# Altium integrated library Smart_Plugs.IntLib: 24 symbols
Pins are listed as number, name and electrical type; pins without a type are passive.

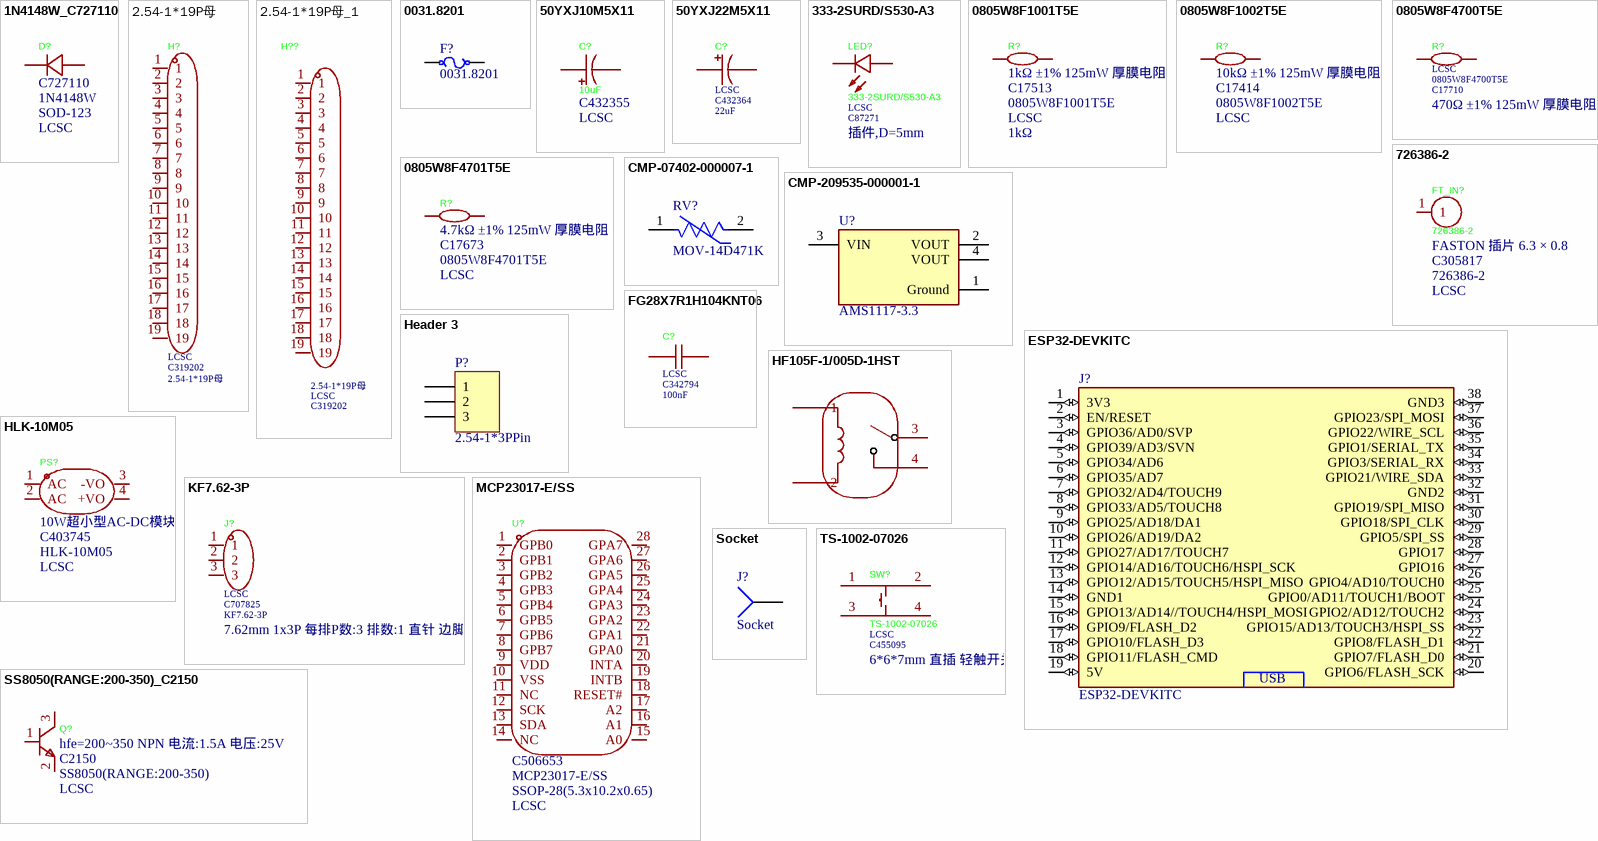
[diagram p0: symbols 1N4148W_C727110 to TS-1002-07026]

## 1N4148W_C727110
designator D?, comment Supplier Part: C727110  Supplier Footprint: SOD-123  Supplier: LCSC  (hidden comment: 1N4148W)
Manufacturer: TWGMC(台湾迪嘉); Symbol: 1N4148W_C727110; Current - Rectified: 300mA; Pd - Power Dissipation: 400mW; Reverse Leakage Current (Ir): 1uA; Non-Repetitive Peak Forward Surge Current: 4A; Add into BOM: yes; Diode Configuration: Independent; Voltage - DC Reverse(Vr): 100V; Reverse Recovery Time (trr): 8ns; Operating Junction Temperature Range: -55℃~+150℃@(Tj); Device: 1N4148W_C727110; LCSC Part Name: 1N4148W; JLCPCB Part Class: Extended Part; Datasheet: https://item.szlcsc.com/datasheet/1N4148W/774215.html; Convert to PCB: yes; Voltage - Forward(Vf@If): -; Manufacturer Part: 1N4148W
footprint SOD-123_L3.1-W1.7-LS3.7-RD
3D model SOD-123_L2.7-W1.6-H1.4-LS3.7
pins: 1 K, 2 A

## 2.54-1*19P母
designator H?  Supplier: LCSC  Supplier Part: C319202  (hidden comment: 2.54-1*19P母)
Manufacturer: BOOMELE(博穆精密); Add into BOM: yes; Pitch: 2.54mm; Circular Hole / Square Hole: Square Hole; Number of Positions: 19P; Holes Direction: Top; Symbol: 2.54-1*19P母; Device: 2.54-1*19P母; LCSC Part Name: 间距:2.54mm 直插; Supplier Footprint: 插件,P=2.54mm; JLCPCB Part Class: Extended Part; Convert to PCB: yes; Row Spacing: -; Mounting Type: Through Hole; Number of Rows: 1; Insulation Height: -; Contact Material: -; Contact Plating: -; Manufacturer Part: 2.54-1*19P母
footprint HDR-TH_19P-P2.54-V-F
3D model HDR-TH_19P-P2.54-F-LI-1X19P
pins: 1, 2, 3, 4, 5, 6, 7, 8, 9, 10, 11, 12, 13, 14, 15, 16, 17, 18, 19

## 2.54-1*19P母_1
designator H??, comment Supplier: LCSC  Supplier Part: C319202  (hidden comment: 2.54-1*19P母)
Manufacturer: BOOMELE(博穆精密); Add into BOM: yes; Pitch: 2.54mm; Circular Hole / Square Hole: Square Hole; Number of Positions: 19P; Holes Direction: Top; Symbol: 2.54-1*19P母; Device: 2.54-1*19P母; Manufacturer Part: 2.54-1*19P母; LCSC Part Name: 间距:2.54mm 直插; Supplier Footprint: 插件,P=2.54mm; JLCPCB Part Class: Extended Part; Convert to PCB: yes; Row Spacing: -; Mounting Type: Through Hole; Number of Rows: 1; Insulation Height: -; Contact Material: -; Contact Plating: -
footprint HDR-TH_19P-P2.54-V-F
3D model HDR-TH_19P-P2.54-F-LI-1X19P
pins: 1, 2, 3, 4, 5, 6, 7, 8, 9, 10, 11, 12, 13, 14, 15, 16, 17, 18, 19

## 0031.8201
designator F?
Fuse Block 10A 500V 1 Circuit Cartridge Through Hole; MF: Schurter Inc.; SnapEDA_Link: https://www.snapeda.com/parts/0031.8201/Schurter%20Inc./view-part/235177/?ref=snap; Availability: Unavailable; MP: 0031.8201; Value: *; Price: None; Package: None
footprint SCHURTER_0031.8201
pins: 1, 2

## 50YXJ10M5X11
designator C?, comment 10uF  Supplier Part: C432355  Supplier: LCSC
Manufacturer: Rubycon(红宝石); Symbol: 50YXJ10M5X11; Add into BOM: yes; Tolerance: ±20%; Voltage Rating: 50V; Pin Spacing: 2mm; Lifetime: 5000hrs@105℃; Device: 50YXJ10M5X11; Value: 10uF; LCSC Part Name: 10uF ±20% 50V; Manufacturer Part: 50YXJ10M5X11; Supplier Footprint: 插件,D5xL11mm; JLCPCB Part Class: Extended Part; Datasheet: https://item.szlcsc.com/datasheet/50YXJ10M5X11/429163.html; Convert to PCB: yes; Diameter: 5mm; Height - Seated (Max): 11mm
footprint CAP-TH_BD5.0-P2.00-D0.8-FD
3D model CAP-TH_D5.0×H7.0×P2.0
pins: 1, 2

## 50YXJ22M5X11
designator C?, comment Supplier: LCSC  Supplier Part: C432364  (hidden comment: 22uF)
Manufacturer: rubycon(红宝石); Symbol: 50YXJ22M5X11; Add into BOM: yes; Tolerance: ±20%; Device: 50YXJ22M5X11; Manufacturer Part: 50YXJ22M5X11; LCSC Part Name: 22uF ±20% 50V; Supplier Footprint: 插件,D5xL11mm; JLCPCB Part Class: Extended Part; Datasheet: https://atta.szlcsc.com/upload/public/pdf/source/20190927/C432444_D90212164DBC1B856ABE912664018FD4.pdf; Convert to PCB: yes; Ripple Current: -; Equivalent Series Resistance(ESR): -; Lead Spacing: 2mm; Lifetime @ Temp: -; Value: 22uF
footprint CAP-TH_BD5.0-P2.00-D0.5-FD-1
3D model CAP-TH_BD5.0-P2.00-D0.5-FD-1
pins: 1, 2

## 333-2SURD/S530-A3
designator LED?  Supplier: LCSC  Supplier Part: C87271  Supplier Footprint: 插件,D=5mm
Manufacturer: EVERLIGHT(亿光); Lamp Holder Type: 5 mm round LED; Add into BOM: yes; Illumination Color: Red; Voltage - Forward(Vf): 2V; Forward Current: 20mA; Wavelength - Dominant: 624nm; Peak Wavelength: 632nm; Lens Color: Red Lens; Luminous Intensity: 200mcd; Viewing Angle: 30°; Symbol: 333-2SURD/S530-A3; Device: 333-2SURD/S530-A3; Manufacturer Part: 333-2SURD/S530-A3; LCSC Part Name: 5mm圆形灯头 红色; JLCPCB Part Class: Extended Part; Datasheet: https://en.everlight.com/wp-content/plugins/ItemRelationship/product_files/pdf/333-2SURD-S530-A3.pdf; Convert to PCB: yes
footprint LED-TH_BD5.9-P2.54-RD_RED
3D model LED-TH_BD5.9-P2.54-RD_RED
pins: 1 C, 2 A

## 0805W8F1001T5E
designator R?, comment LCSC Part Name: 1kΩ ±1% 125mW 厚膜电阻  Supplier Part: C17513  Manufacturer Part: 0805W8F1001T5E  Supplier: LCSC  (hidden comment: 1kΩ)
Manufacturer: UNI-ROYAL(厚声); Add into BOM: yes; Tolerance: ±1%; Temperature Coefficient: ±100ppm/℃; Symbol: 0805W8F1001T5E; Device: 0805W8F1001T5E; Supplier Footprint: 0805; JLCPCB Part Class: Basic Part; Datasheet: https://atta.szlcsc.com/upload/public/pdf/source/20200306/C422600_1E6D84923E4A46A82E41ADD87F860B5C.pdf; Convert to PCB: yes; Type: Thick Film Resistors; Operating Temperature Range: -55℃~+155℃; Value: 1kΩ
footprint R0805
3D model R0805_L2.0-W1.3-H0.6
pins: 1, 2

## 0805W8F1002T5E
designator R?, comment LCSC Part Name: 10kΩ ±1% 125mW 厚膜电阻  Supplier Part: C17414  Manufacturer Part: 0805W8F1002T5E  Supplier: LCSC  (hidden comment: 10kΩ)
Manufacturer: UNI-ROYAL(厚声); Add into BOM: yes; Tolerance: ±1%; Power(Watts): 125mW; Voltage-Supply(Max): 150V; Temperature Coefficient: ±100ppm/℃; Symbol: 0805W8F1002T5E; Device: 0805W8F1002T5E; Value: 10kΩ; Supplier Footprint: 0805; JLCPCB Part Class: Basic Part; Datasheet: https://item.szlcsc.com/datasheet/0805W8F1002T5E/18102.html; Convert to PCB: yes; Type: Thick Film Resistor; Operating Temperature: -55℃~+155℃
footprint R0805
3D model R0805_L2.0-W1.3-H0.6
pins: 1, 2

## 0805W8F4700T5E
designator R?, comment Supplier: LCSC  Manufacturer Part: 0805W8F4700T5E  Supplier Part: C17710  LCSC Part Name: 470Ω ±1% 125mW 厚膜电阻  (hidden comment: 470Ω)
Manufacturer: UNI-ROYAL(厚声); Add into BOM: yes; Tolerance: ±1%; Power(Watts): 125mW; Voltage-Supply(Max): 150V; Temperature Coefficient: ±100ppm/℃; Symbol: 0805W8F4700T5E; Device: 0805W8F4700T5E; Supplier Footprint: 0805; JLCPCB Part Class: Basic Part; Datasheet: https://item.szlcsc.com/datasheet/0805W8F4700T5E/18398.html; Convert to PCB: yes; Type: Thick Film Resistor; Value: 470Ω; Operating Temperature: -55℃~+155℃
footprint R0805
3D model R0805_L2.0-W1.3-H0.6
pins: 1, 2

## 0805W8F4701T5E
designator R?, comment LCSC Part Name: 4.7kΩ ±1% 125mW 厚膜电阻  Supplier Part: C17673  Manufacturer Part: 0805W8F4701T5E  Supplier: LCSC  (hidden comment: 4.7kΩ)
Manufacturer: UNI-ROYAL(厚声); Add into BOM: yes; Tolerance: ±1%; Temperature Coefficient: ±100ppm/℃; Symbol: 0805W8F4701T5E; Device: 0805W8F4701T5E; Supplier Footprint: 0805; JLCPCB Part Class: Basic Part; Datasheet: https://atta.szlcsc.com/upload/public/pdf/source/20200306/C422600_1E6D84923E4A46A82E41ADD87F860B5C.pdf; Convert to PCB: yes; Type: Thick Film Resistors; Value: 4.7kΩ; Operating Temperature Range: -55℃~+155℃
footprint R0805
3D model R0805_L2.0-W1.3-H0.6
pins: 1, 2

## 726386-2
designator FT_IN?  LCSC Part Name: FASTON 插片 6.3 × 0.8  Supplier Part: C305817  Supplier: LCSC
Manufacturer: TE Connectivity(泰科电子); Add into BOM: yes; Symbol: 726386-2; Device: 726386-2; Supplier Footprint: 插件; JLCPCB Part Class: Extended Part; Datasheet: https://item.szlcsc.com/datasheet/726386-2/289903.html; Convert to PCB: yes; Manufacturer Part: 726386-2
footprint CONN-TH_726386-2
3D model CONN-TH_726386-2
pins: 1

## CMP-07402-000007-1
designator RV?, comment MOV-14D471K
VARISTOR 470V 4.5KA DISC 14MM; Manufacturer: Bourns Inc.; Manufacturer: Bourns; Value: 516pF; Clamping Voltage: 775V; Esd Protec Present: true; Voltage Rating Ac: 300V; Clamping Current: 50A; Voltage Tolerance: 10%; Varistor Voltage: 423V; Voltage Rating Dc: 385V; Temperature Range High: +105°C; Device Class L3: unset; Category: Res; Package: Radial; Height: 20mm; Device Class L1: Circuit Protection; Temperature Range Low: -40°C; Lead Free: Yes; Automotive: No; Mouser Description: Varistors 470volts 14mm; RoHS: TRUE; Octopart: https://octopart.com/mov-14d471k-bourns-21388916; Device Class L2: Varistors; Manufacturer Part Number: MOV-14D471K; Digikey Description: VARISTOR 470V 4.5KA DISC 14MM; Temperature: -40°C to +105°C; Capacitance: 516pF; ComponentLink2Description: Datasheet; ComponentLink2URL: https://www.bourns.com/docs/product-datasheets/mov14d.pdf?sfvrsn=d6ed188_26
footprint FP-MOV-14D471K-MFG
pins: 1, 2

## CMP-209535-000001-1
designator U?, comment AMS1117-3.3
LDO Voltage Regulators 1A, 3.3V; Manufacturer: Advanced Monolithic Systems; Dropout Voltage: 1.1V; Output Type: Fixed; Nominal Supply Current: 5mA; Max Power Dissipation: 1.2W; Max Supply Voltage: 15V; Number Of Outputs: 1; Standoff Height: 0.64mm; Max Junction Temp: +125°C; Height: 1.8mm; Package: AMS1117; Device Class L2: Power Management ICs; ComponentLink2Description: Datasheet; ComponentLink2URL: http://www.advanced-monolithic.com/pdf/ds1117.pdf; Category: IC; RoHS: TRUE; Automotive: No; Device Class L1: Integrated Circuits (ICs); Output Current: 1A; Device Class L3: Voltage Regulators - Linear; Temperature: -40°C to +125°C; Output Voltage: 3.3V; Manufacturer Part Number: AMS1117-3.3; Temperature Range Low: -40°C; Octopart: https://octopart.com/ams1117-3.3-advanced+monolithic+systems-25899300; Lead Free: Yes; Ipc Land Pattern Name: SOT229P700X180-4; Temperature Range High: +125°C
footprint FP-AMS1117-IPC_C
footprint FP-AMS1117-IPC_B
footprint FP-AMS1117-IPC_A
pins: 1 Ground (power), 2 VOUT, 3 VIN (power), 4 VOUT

## ESP32-DEVKITC
designator J?
ESP32-WROOM-32UE series Transceiver; 802.11 b/g/n (Wi-Fi, WiFi, WLAN), Bluetooth Â® Smart Ready 4.x Dual Mode Evaluation Board; MF: Espressif Systems; SnapEDA_Link: https://www.snapeda.com/parts/ESP32-DEVKITC/Espressif+Systems/view-part/?ref=snap; Package: None; Value: *; MP: ESP32-DEVKITC; Check_prices: https://www.snapeda.com/parts/ESP32-DEVKITC/Espressif+Systems/view-part/?ref=eda
footprint ESP32-DEVKITC
pins: 1 3V3 (io), 2 EN/RESET (io), 3 GPIO36/AD0/SVP (io), 4 GPIO39/AD3/SVN (io), 5 GPIO34/AD6 (io), 6 GPIO35/AD7 (io), 7 GPIO32/AD4/TOUCH9 (io), 8 GPIO33/AD5/TOUCH8 (io), 9 GPIO25/AD18/DA1 (io), 10 GPIO26/AD19/DA2 (io), 11 GPIO27/AD17/TOUCH7 (io), 12 GPIO14/AD16/TOUCH6/HSPI_SCK (io), 13 GPIO12/AD15/TOUCH5/HSPI_MISO (io), 14 GND1 (io), 15 GPIO13/AD14//TOUCH4/HSPI_MOSI (io), 16 GPIO9/FLASH_D2 (io), 17 GPIO10/FLASH_D3 (io), 18 GPIO11/FLASH_CMD (io), 19 5V (io), 20 GPIO6/FLASH_SCK (io), 21 GPIO7/FLASH_D0 (io), 22 GPIO8/FLASH_D1 (io), 23 GPIO15/AD13/TOUCH3/HSPI_SS (io), 24 GPIO2/AD12/TOUCH2 (io), 25 GPIO0/AD11/TOUCH1/BOOT (io), 26 GPIO4/AD10/TOUCH0 (io), 27 GPIO16 (io), 28 GPIO17 (io), 29 GPIO5/SPI_SS (io), 30 GPIO18/SPI_CLK (io), 31 GPIO19/SPI_MISO (io), 32 GND2 (io), 33 GPIO21/WIRE_SDA (io), 34 GPIO3/SERIAL_RX (io), 35 GPIO1/SERIAL_TX (io), 36 GPIO22/WIRE_SCL (io), 37 GPIO23/SPI_MOSI (io), 38 GND3 (io)
text: USB

## FG28X7R1H104KNT06
designator C?, comment Supplier: LCSC  Supplier Part: C342794  (hidden comment: 100nF)
Manufacturer: TDK; Symbol: FG28X7R1H104KNT06; Add into BOM: yes; Tolerance: ±10%; Voltage Rating: 50V; Temperature Coefficient: X7R; Pin Spacing: 5mm; Device: FG28X7R1H104KNT06; LCSC Part Name: 100nF ±10% 50V; Manufacturer Part: FG28X7R1H104KNT06; Supplier Footprint: 插件,P=5mm; JLCPCB Part Class: Extended Part; Datasheet: https://item.szlcsc.com/datasheet/FG28X7R1H104KNT06/319644.html; Convert to PCB: yes; Value: 100nF
footprint CAP-TH_L4.0-W2.5-P5.00-D1.0
3D model CAP-TH_L4.0-W2.5-H5.5-P5.0
pins: 1, 2

## Header 3
designator P?, comment 2.54-1*3PPin
-40℃~+105℃ 1 1x3P 2.54mm 2.5mm 3A 3P 3mm 6mm Black Brass Gold Pin Header Through Hole Plugin,P=2.54mm Pin Headers ROHS; LatestRevisionDate: 17-Jul-2002; LatestRevisionNote: Re-released for DXP Platform.; Publisher: Altium Limited
footprint HDR1X3 (Connector; Header; 3 Position)
signal-integrity model Connector
pins: 1, 2, 3

## HF105F-1/005D-1HST
designator K?  (value not drawn)
Manufacturer: HF(宏发); Add into BOM: yes; Coil Voltage: 5V; Contact Form: 1 Set Normally Open: 1A (SPST NO); Contact Rating: 30A@240VAC；20A@28VDC; Switching Voltage(Max): 277V@AC；28V@DC; Coil Rated Power: 900mW; Switching Current(Max): 40A; Coil Type: Non-Polarized - Single Coil; Coil Resistance: 27Ω; Contact Resistance: 50mΩ; Operate Time: 15ms; Release Time: 10ms; Symbol: HF105F-1/005D-1HST; Device: HF105F-1/005D-1HST; LCSC Part Name: 小型大功率5V继电器 单刀单掷-常开; Supplier Part: C2976768; Manufacturer Part: HF105F-1/005D-1HST; Supplier Footprint: 插件,32.3x27.1mm; JLCPCB Part Class: Extended Part; Datasheet: https://item.szlcsc.com/datasheet/HF105F-1%252F005D-1HST/3384988.html; Supplier: LCSC; Convert to PCB: yes; Number of Pins: 4; Contact Material: AgSnO2; Operating Temperature: -55℃~+85℃
footprint HF105F-1_005D-1HST1_Update
pins: 1, 2, 3, 4

## HLK-10M05
designator PS?  LCSC Part Name: 10W超小型AC-DC模块电源  Supplier Part: C403745  Supplier: LCSC  (hidden comment: HLK-10M05)
Manufacturer: HI-LINK(海凌科); Add into BOM: yes; Symbol: HLK-10M05; Device: HLK-10M05; Supplier Footprint: DIP,46.9x27.8mm; JLCPCB Part Class: Extended Part; Datasheet: https://item.szlcsc.com/datasheet/HLK-10M05/389994.html; Convert to PCB: yes; Manufacturer Part: HLK-10M05
footprint PWRM-TH_HLK-10M05
3D model PWRM-TH_HLK-10M05
pins: 1 AC, 2 AC, 3 -VO, 4 +VO

## KF7.62-3P
designator J?  Supplier: LCSC  Supplier Part: C707825  LCSC Part Name: 7.62mm 1x3P 每排P数:3 排数:1 直针 边脚  (hidden comment: KF7.62-3P)
Manufacturer: KEFA(科发); Barrier Type: 2-Side; Pitch: 7.62mm; Add into BOM: yes; Number of Positions or Pins: 1x3P; Pin Location: Side Mount; Number of PINs Per Row: 3; Current Rating: 24A; Voltage Rating (Max): 450V; Wire Gauge - AWG: 12~22; Wire Gauge - mm2: 2.5; Symbol: KF7.62-3P; Device: KF7.62-3P; JLCPCB Part Class: Extended Part; Supplier Footprint: 插件,P=7.62mm; Datasheet: https://item.szlcsc.com/datasheet/KF7.62-3P/745034.html; Convert to PCB: yes; Mounting Type: Straight Pin; Number of Pins: 3P; Number of Rows: 1; Operating Temperature: -40℃~+105℃; Color: Black; Manufacturer Part: KF7.62-3P
footprint CONN-TH_KF7.62-3P
3D model CONN-TH_KF7.62-3P
pins: 1, 2, 3

## MCP23017-E/SS
designator U?  Supplier Part: C506653  Supplier Footprint: SSOP-28(5.3x10.2x0.65)  Supplier: LCSC  (hidden comment: MCP23017-E/SS)
Manufacturer: MICROCHIP(美国微芯); Add into BOM: yes; Interface: I2C; Number of I/O: 16; Voltage - Supply: 1.8V~5.5V; Current - Output Low(IOL): 8mA; Clock Frequency: 1.7MHz; Number of Supporting Devices: 8; Quiescent Current: 1uA; Output Logic Level - Low: 600mV; Symbol: MCP23017-E/SS; Device: MCP23017-E/SS; LCSC Part Name: 16位带串行接口的I/O扩展器; JLCPCB Part Class: Extended Part; Datasheet: https://item.szlcsc.com/datasheet/MCP23017-E%252FSS/519857.html; Convert to PCB: yes; Interrupt Output: Interrupt Output; Output Type: -; Current - Output High(IOH): -; Operating Temperature: -40℃~+125℃; Manufacturer Part: MCP23017-E/SS
footprint SSOP-28_L10.2-W5.3-P0.65-LS7.8-BL
3D model SSOP-28_L10.2-W5.3-H2.0-LS7.8-P0.65
pins: 1 GPB0, 2 GPB1, 3 GPB2, 4 GPB3, 5 GPB4, 6 GPB5, 7 GPB6, 8 GPB7, 9 VDD, 10 VSS, 11 NC, 12 SCK, 13 SDA, 14 NC, 15 A0, 16 A1, 17 A2, 18 RESET#, 19 INTB, 20 INTA, 21 GPA0, 22 GPA1, 23 GPA2, 24 GPA3, 25 GPA4, 26 GPA5, 27 GPA6, 28 GPA7

## Socket
designator J?
LatestRevisionDate: 17-Jul-2002; LatestRevisionNote: Re-released for DXP Platform.; Publisher: Altium Limited
footprint PIN1 (Connector; Socket)
signal-integrity model Connector
pins: 1

## SS8050(RANGE:200-350)_C2150
designator Q?, comment LCSC Part Name: hfe=200~350 NPN 电流:1.5A 电压:25V  Supplier Part: C2150  Supplier: LCSC  (hidden comment: SS8050(RANGE:200-350))
Manufacturer: CJ(江苏长电/长晶); Symbol: SS8050_C2150; Device: SS8050(RANGE:200-350)_C2150; Add into BOM: yes; type: NPN; Current - Collector(Ic): 1.5A; Collector - Emitter Voltage VCEO: 25V; Pd - Power Dissipation: 300mW; DC Current Gain: 200@800mA,1V; Transition frequency(fT): 100MHz; Current - Collector Cutoff: 100nA; Vce Saturation(VCE(sat)): 500mV@800mA,80mA; Emitter-Base Voltage(Vebo): 5V; Number: 1 NPN; Supplier Footprint: SOT-23; JLCPCB Part Class: Basic Part; Datasheet: https://item.szlcsc.com/datasheet/SS8050(RANGE%253A200-350)/2507.html; Convert to PCB: yes; Operating Temperature: -55℃~+150℃; Manufacturer Part: SS8050(RANGE:200-350)
footprint SOT-23-3_L2.9-W1.3-P1.90-LS2.4-BR
3D model SOT-23-3P_L2.9-W1.3-H1.0-LS2.4-P0.95
pins: 1 B, 2 E, 3 C

## TS-1002-07026
designator SW?  Supplier: LCSC  Supplier Part: C455095  LCSC Part Name: 6*6*7mm 直插 轻触开关
Manufacturer: XUNPU(讯普); Add into BOM: yes; Circuit: SPST; Actuator Style: Round Button; Switch Height: 7mm; Contact Current: 50mA; Voltage Rating: 12V; Symbol: TS-1002-07026; Device: TS-1002-07026; Manufacturer Part: TS-1002-07026; Supplier Footprint: 插件,6x6mm; JLCPCB Part Class: Extended Part; Datasheet: https://item.szlcsc.com/datasheet/TS-1002-07026/457500.html; Convert to PCB: yes; Mounting Type: Through Hole; Length: 6mm; Width: 6mm; With Lamp: -; Life: -
footprint SW-TH_4P-L6.0-W6.0-P4.50-LS6.5
3D model SW-TH_4P-L6.0-W6.0-H5.0-LS6.5-P4.50
pins: 1, 2, 3, 4